# Altium footprint library CON01X02_100MIL.PcbLib: 1 footprints
Each footprint in its own frame and in the unit in brackets; x right, y up, seen from the top. Pads: shape width x height; smd on the part's side, far side on the other; paste and mask are expansions set on the pad; w line width, h text height; cw(c..) or ccw(c..) is an arc to the next point about the centre after c.
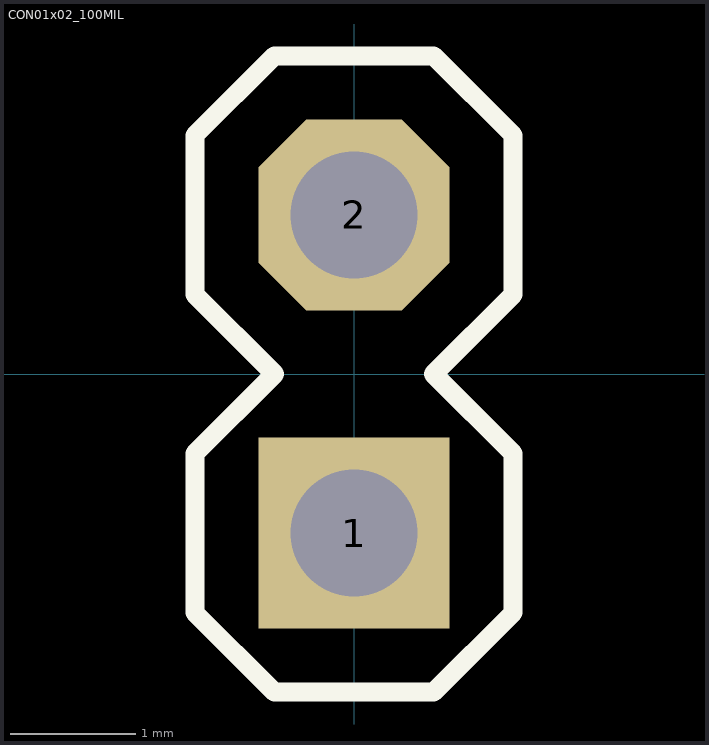
[diagram p0: the footprint, top view; thin cyan lines are the x and y axes]

## CON01x02_100MIL [mil]
pads (2):
  rect 60x60 hole 40: 1(0,-50)
  oct 60x60 hole 40: 2(0,50)
Top Overlay:
  lines w6: -50,-75 -50,-25 -25,0 -50,25 -50,75 -25,100 25,100 50,75 50,25 25,0 50,-25 50,-75 25,-100 -25,-100 -50,-75
Mechanical 16:
  rectangle: -10,-60 10,-40
  rectangle: -10,40 10,60